# EAGLE library part 556 (library BME_Components)
Dual Timer, 14-pin Narrow SOIC, Pb-Free
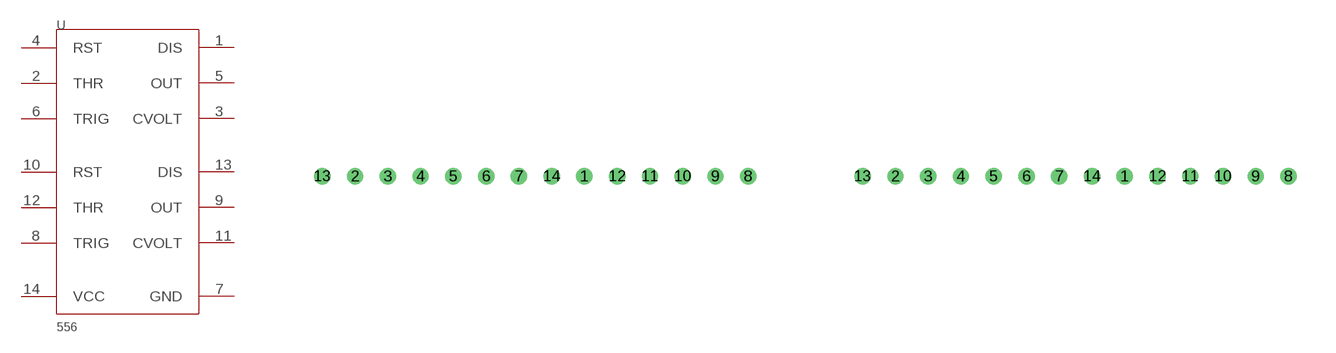
[diagram p31: symbol with the pads of 556_PDIP-14; footprints 556_PDIP-14, 556_D0014A_M]

Designator prefix U

## 556556_556_PDIP-14 (CODE_IPC: SOIC127P600-14; CODE_JEDEC: MS-012AB; COMPONENTLINK1DESCRIPTION: Datasheet URL; COMPTYPE: Analog IC; MANUFACTURER: Texas Instruments; PACKAGEDESCRIPTION: Molded Package S.O., .150in Wide, 14 Lead; PACKAGEREFERENCE: D0014A; PACKAGETOPMARKING: NSUZXYTTE#*LM556CM; PINCOUNT: 14; POWERWISE: N; ROHS: Y)  [556_PDIP-14]
1  DIS  oc
2  THR  in
3  CVOLT  pas
4  RST  in
5  OUT  out
6  TRIG  in
7  GND  pwr
8  TRIG  in
9  OUT  out
10  RST  in
11  CVOLT  pas
12  THR  in
13  DIS  oc
14  VCC  pwr

## 556556_556_D0014A_M (CODE_IPC: SOIC127P600-14; CODE_JEDEC: MS-012AB; COMPONENTLINK1DESCRIPTION: Datasheet URL; COMPTYPE: Analog IC; MANUFACTURER: Texas Instruments; PACKAGEDESCRIPTION: Molded Package S.O., .150in Wide, 14 Lead; PACKAGEREFERENCE: D0014A; PACKAGETOPMARKING: NSUZXYTTE#*LM556CM; PINCOUNT: 14; POWERWISE: N; ROHS: Y)  [556_D0014A_M]
Pads as for 556_PDIP-14

## 556556_556_D0014A_N (CODE_IPC: SOIC127P600-14; CODE_JEDEC: MS-012AB; COMPONENTLINK1DESCRIPTION: Datasheet URL; COMPTYPE: Analog IC; MANUFACTURER: Texas Instruments; PACKAGEDESCRIPTION: Molded Package S.O., .150in Wide, 14 Lead; PACKAGEREFERENCE: D0014A; PACKAGETOPMARKING: NSUZXYTTE#*LM556CM; PINCOUNT: 14; POWERWISE: N; ROHS: Y)  [556_D0014A_N]
Pads as for 556_PDIP-14

## 556556_556_D0014A_L (CODE_IPC: SOIC127P600-14; CODE_JEDEC: MS-012AB; COMPONENTLINK1DESCRIPTION: Datasheet URL; COMPTYPE: Analog IC; MANUFACTURER: Texas Instruments; PACKAGEDESCRIPTION: Molded Package S.O., .150in Wide, 14 Lead; PACKAGEREFERENCE: D0014A; PACKAGETOPMARKING: NSUZXYTTE#*LM556CM; PINCOUNT: 14; POWERWISE: N; ROHS: Y)  [556_D0014A_L]
Pads as for 556_PDIP-14

## Footprint 556_PDIP-14 (pad centres in mm)
drill 0.127 pad 0.254 round: 1 10.16,0; 2 1.27,0; 3 2.54,0; 4 3.81,0; 5 5.08,0; 6 6.35,0; 7 7.62,0; 8 16.51,0; 9 15.24,0; 10 13.97,0; 11 12.7,0; 12 11.43,0; 13 0,0; 14 8.89,0

## Footprint 556_D0014A_M (pad centres in mm)
drill 0.127 pad 0.254 round: 1 10.16,0; 2 1.27,0; 3 2.54,0; 4 3.81,0; 5 5.08,0; 6 6.35,0; 7 7.62,0; 8 16.51,0; 9 15.24,0; 10 13.97,0; 11 12.7,0; 12 11.43,0; 13 0,0; 14 8.89,0

## Footprint 556_D0014A_N (pad centres in mm)
drill 0.127 pad 0.254 round: 1 10.16,0; 2 1.27,0; 3 2.54,0; 4 3.81,0; 5 5.08,0; 6 6.35,0; 7 7.62,0; 8 16.51,0; 9 15.24,0; 10 13.97,0; 11 12.7,0; 12 11.43,0; 13 0,0; 14 8.89,0

## Footprint 556_D0014A_L (pad centres in mm)
drill 0.127 pad 0.254 round: 1 10.16,0; 2 1.27,0; 3 2.54,0; 4 3.81,0; 5 5.08,0; 6 6.35,0; 7 7.62,0; 8 16.51,0; 9 15.24,0; 10 13.97,0; 11 12.7,0; 12 11.43,0; 13 0,0; 14 8.89,0